# Altium schematic symbol library LDO.SchLib: 1 symbol
Pins are listed as number, name and electrical type; pins without a type are passive.

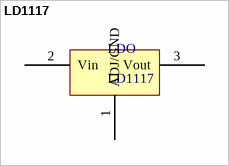
[diagram p0: symbol LD1117]

## LD1117
designator LDO
Output ail-to- ail Very-Low-Noise Operational Amplifier 14-SOIC -40 to 125; Manufacturer: STMicroelectronics; Manufacturer Part Number: LD1117DT33TR; Accuracy: 1%; Dropout Voltage: 1.1V; Input Bias Current: 5mA; Max Supply Voltage: 15V; Max Junction Temperature (Tj): 125°C; Max Output current: 1.3A; Max Power Dissipation: 12W; Min Input Voltage: 4.75V; Nominal Output Voltage: 3.3V; Number of Channels: 1; Output Current: 800mA; Output Type: Fixed; Polarity: Positive; Voltage Tolerance: 2%; Supplier: DigiKey; Supplier Part Number: 497-1236-1-ND; RoHS: Compliant; Category: LDO Voltage Regulators; Stock: 24539; Pricing: 1=0,48, 10=0,339, 25=0,3028, 100=0,2629, 250=0,24392, 500=0,23244, 1000=0,22299 (USD); Case/Package: TO-252; China RoHS: Non-Compliant; Contact Plating: Tin; Height: 2.4mm; Height - Seated (Max): 2.3mm; Length: 6.5mm; Lifecycle Status: Production; Max Operating Temperature: 125°C; Min Operating Temperature: 0°C; Mounting Technology: Surface Mount; Nominal Supply Current: 5mA; Number of Circuits: 1; Number of Outputs: 1; Pins: 3; Number of Regulators: 1; Number of Terminals: 2; Output Voltage: 3.3V; Output Voltage Accuracy: 1%; Packaging: Tape and Reel; Power Dissipation: 12W; Power Rating: 12W; Quiescent Current: 5mA; Radiation Hardening: No; REACH SVHC: No; Schedule B: 8542390000, 8542390000|8542390000|8542390000|8542390000|8542390000; Terminal Pitch: 2.28mm; Tolerance: 1%; Weight: 4.535924g; Width: 6.1mm; ComponentLink1URL: https://datasheet.octopart.com:443/LD1117DT33TR-STMicroelectronics-datasheet-21631343.pdf?src-supplier=element14+APAC; ComponentLink1Description: https://datasheet.octopart.com:443/LD1117DT33TR-STMicroelectronics-datasheet-21631343.pdf?src-supplier=element14+APAC; ComponentLink2URL: https://datasheet.octopart.com:443/LD1117DT33TR-STMicroelectronics-datasheet-12512609.pdf?src-supplier=Upverter; ComponentLink2Description: https://datasheet.octopart.com:443/LD1117DT33TR-STMicroelectronics-datasheet-12512609.pdf?src-supplier=Upverter; ComponentLink3URL: https://datasheet.octopart.com:443/LD1117DT33TR-STMicroelectronics-datasheet-10835789.pdf?src-supplier=Upverter; ComponentLink3Description: https://datasheet.octopart.com:443/LD1117DT33TR-STMicroelectronics-datasheet-10835789.pdf?src-supplier=Upverter; ComponentLink4URL: https://datasheet.octopart.com:443/LD1117DT33TR-STMicroelectronics-datasheet-10544930.pdf?src-supplier=Upverter; ComponentLink4Description: https://datasheet.octopart.com:443/LD1117DT33TR-STMicroelectronics-datasheet-10544930.pdf?src-supplier=Upverter; ComponentLink5URL: https://datasheet.octopart.com:443/LD1117DT33TR-STMicroelectronics-datasheet-10390305.pdf?src-supplier=Upverter; ComponentLink5Description: https://datasheet.octopart.com:443/LD1117DT33TR-STMicroelectronics-datasheet-10390305.pdf?src-supplier=Upverter; ComponentLink6URL: https://datasheet.octopart.com:443/LD1117DT33TR-STMicroelectronics-datasheet-8082140.pdf?src-supplier=element14; ComponentLink6Description: https://datasheet.octopart.com:443/LD1117DT33TR-STMicroelectronics-datasheet-8082140.pdf?src-supplier=element14; ComponentLink7URL: https://datasheet.octopart.com:443/LD1117DT33TR-STMicroelectronics-datasheet-8710537.pdf?src-supplier=element14; ComponentLink7Description: https://datasheet.octopart.com:443/LD1117DT33TR-STMicroelectronics-datasheet-8710537.pdf?src-supplier=element14; ComponentLink8URL: https://datasheet.octopart.com:443/LD1117DT33TR-STMicroelectronics-datasheet-8453752.pdf?src-supplier=element14; ComponentLink8Description: https://datasheet.octopart.com:443/LD1117DT33TR-STMicroelectronics-datasheet-8453752.pdf?src-supplier=element14; ComponentLink9URL: https://datasheet.octopart.com:443/LD1117DT33TR-STMicroelectronics-datasheet-9746.pdf?src-supplier=DigiKey; ComponentLink9Description: https://datasheet.octopart.com:443/LD1117DT33TR-STMicroelectronics-datasheet-9746.pdf?src-supplier=DigiKey; ComponentLink10URL: https://datasheet.octopart.com:443/LD1117DT33TR-STMicroelectronics-datasheet-14168930.pdf?src-supplier=iiiC; ComponentLink10Description: https://datasheet.octopart.com:443/LD1117DT33TR-STMicroelectronics-datasheet-14168930.pdf?src-supplier=iiiC; ComponentLink11URL: https://datasheet.octopart.com:443/LD1117DT33TR-STMicroelectronics-datasheet-5314031.pdf?src-supplier=Nu+Horizons; ComponentLink11Description: https://datasheet.octopart.com:443/LD1117DT33TR-STMicroelectronics-datasheet-5314031.pdf?src-supplier=Nu+Horizons; ComponentLink12URL: https://datasheet.octopart.com:443/LD1117DT33TR-STMicroelectronics-datasheet-502396.pdf?src-supplier=Nu+Horizons; ComponentLink12Description: https://datasheet.octopart.com:443/LD1117DT33TR-STMicroelectronics-datasheet-502396.pdf?src-supplier=Nu+Horizons; ComponentLink13URL: https://datasheet.octopart.com:443/LD1117DT33TR-STMicroelectronics-datasheet-109521.pdf?src-supplier=Nu+Horizons; ComponentLink13Description: https://datasheet.octopart.com:443/LD1117DT33TR-STMicroelectronics-datasheet-109521.pdf?src-supplier=Nu+Horizons; ComponentLink14URL: https://datasheet.octopart.com:443/LD1117DT33TR-STMicroelectronics-datasheet-7556021.pdf?src-supplier=Jameco; ComponentLink14Description: https://datasheet.octopart.com:443/LD1117DT33TR-STMicroelectronics-datasheet-7556021.pdf?src-supplier=Jameco; ComponentLink15URL: https://datasheet.octopart.com:443/LD1117DT33TR-STMicroelectronics-datasheet-113917.pdf?src-supplier=Sierra+IC; ComponentLink15Description: https://datasheet.octopart.com:443/LD1117DT33TR-STMicroelectronics-datasheet-113917.pdf?src-supplier=Sierra+IC; Supplier 1: DigiKey; Supplier Part Number 1: 497-1236-1-ND
pins: 1 ADJ/GND (power), 2 Vin (power), 3 Vout (power)